# Altium schematic symbol library LFE5U-25F-BG256.Schlib: 1 symbol
Pins are listed as number, name and electrical type; pins without a type are passive.

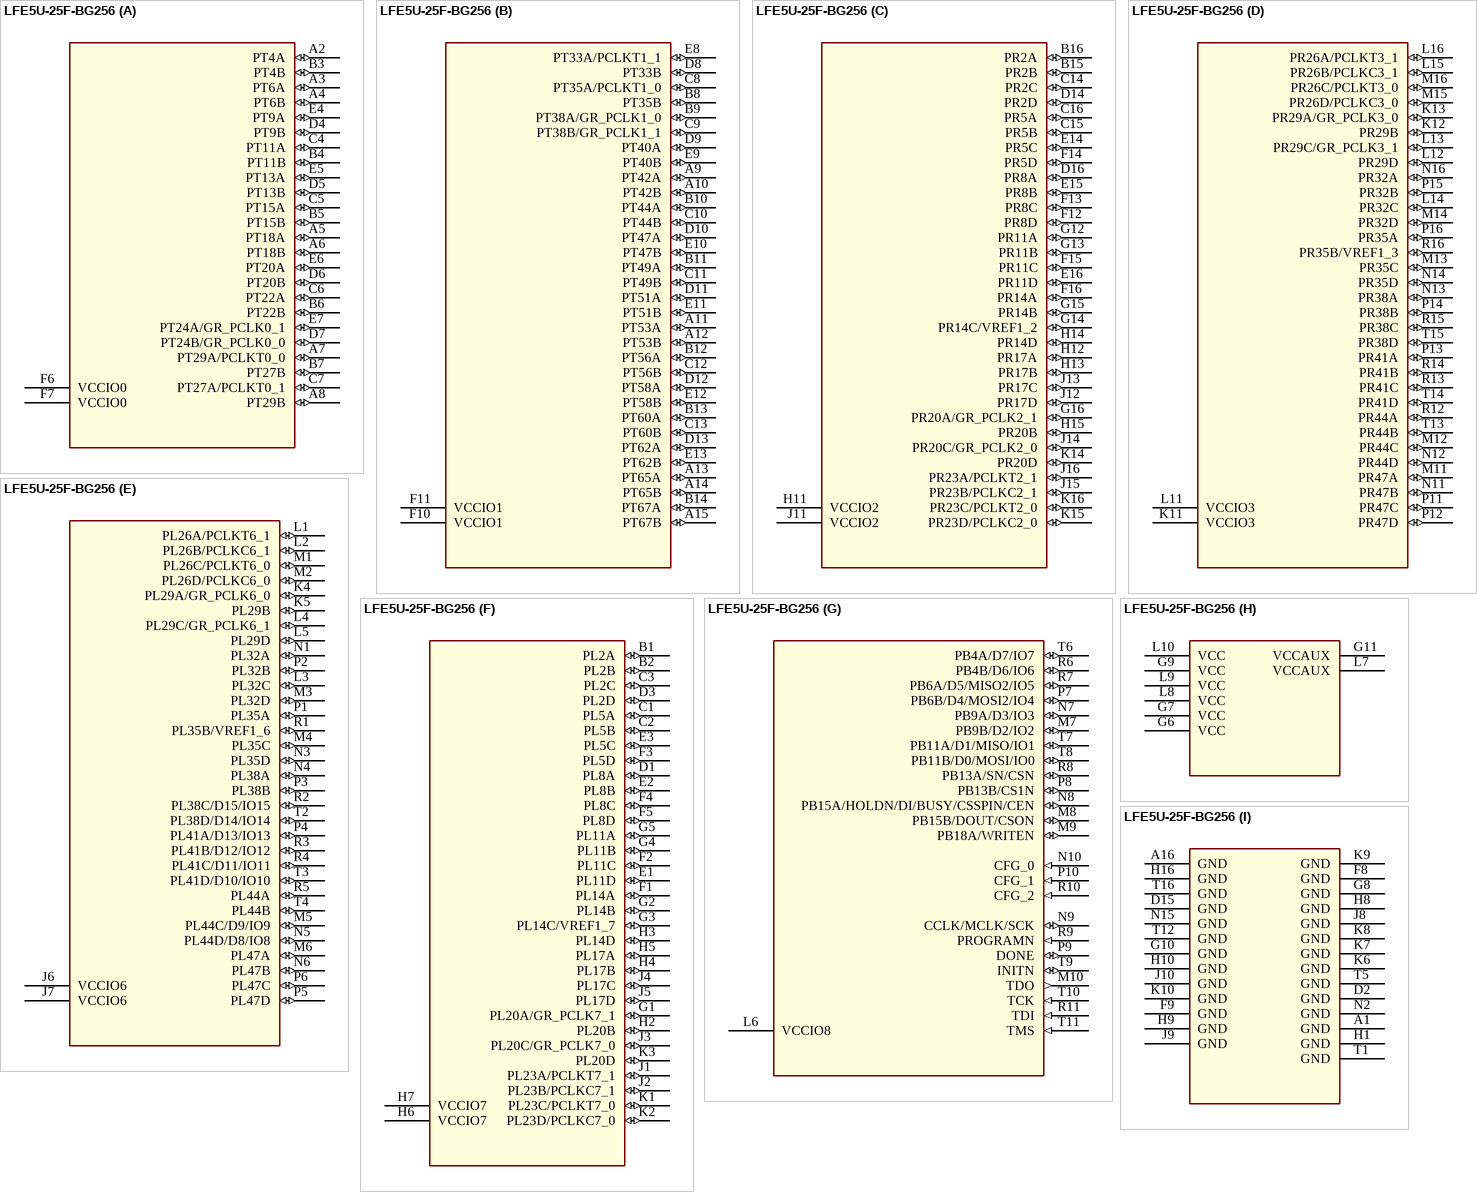
[diagram p0: symbol LFE5U-25F-BG256]

## LFE5U-25F-BG256
designator U?
part A pins: A2 PT4A (io), A3 PT6A (io), A4 PT6B (io), A5 PT18A (io), A6 PT18B (io), A7 PT29A/PCLKT0_0 (io), A8 PT29B (io), B3 PT4B (io), B4 PT11B (io), B5 PT15B (io), B6 PT22B (io), B7 PT27B (io), C4 PT11A (io), C5 PT15A (io), C6 PT22A (io), C7 PT27A/PCLKT0_1 (io), D4 PT9B (io), D5 PT13B (io), D6 PT20B (io), D7 PT24B/GR_PCLK0_0 (io), E4 PT9A (io), E5 PT13A (io), E6 PT20A (io), E7 PT24A/GR_PCLK0_1 (io), F6 VCCIO0 (power), F7 VCCIO0 (power)
part B pins: A9 PT42A (io), A10 PT42B (io), A11 PT53A (io), A12 PT53B (io), A13 PT65A (io), A14 PT65B (io), A15 PT67B (io), B8 PT35B (io), B9 PT38A/GR_PCLK1_0 (io), B10 PT44A (io), B11 PT49A (io), B12 PT56A (io), B13 PT60A (io), B14 PT67A (io), C8 PT35A/PCLKT1_0 (io), C9 PT38B/GR_PCLK1_1 (io), C10 PT44B (io), C11 PT49B (io), C12 PT56B (io), C13 PT60B (io), D8 PT33B (io), D9 PT40A (io), D10 PT47A (io), D11 PT51A (io), D12 PT58A (io), D13 PT62A (io), E8 PT33A/PCLKT1_1 (io), E9 PT40B (io), E10 PT47B (io), E11 PT51B (io), E12 PT58B (io), E13 PT62B (io), F10 VCCIO1 (power), F11 VCCIO1 (power)
part C pins: B15 PR2B (io), B16 PR2A (io), C14 PR2C (io), C15 PR5B (io), C16 PR5A (io), D14 PR2D (io), D16 PR8A (io), E14 PR5C (io), E15 PR8B (io), E16 PR11D (io), F12 PR8D (io), F13 PR8C (io), F14 PR5D (io), F15 PR11C (io), F16 PR14A (io), G12 PR11A (io), G13 PR11B (io), G14 PR14C/VREF1_2 (io), G15 PR14B (io), G16 PR20A/GR_PCLK2_1 (io), H11 VCCIO2 (power), H12 PR17A (io), H13 PR17B (io), H14 PR14D (io), H15 PR20B (io), J11 VCCIO2 (power), J12 PR17D (io), J13 PR17C (io), J14 PR20C/GR_PCLK2_0 (io), J15 PR23B/PCLKC2_1 (io), J16 PR23A/PCLKT2_1 (io), K14 PR20D (io), K15 PR23D/PCLKC2_0 (io), K16 PR23C/PCLKT2_0 (io)
part D pins: K11 VCCIO3 (power), K12 PR29B (io), K13 PR29A/GR_PCLK3_0 (io), L11 VCCIO3 (power), L12 PR29D (io), L13 PR29C/GR_PCLK3_1 (io), L14 PR32C (io), L15 PR26B/PCLKC3_1 (io), L16 PR26A/PCLKT3_1 (io), M11 PR47A (io), M12 PR44C (io), M13 PR35C (io), M14 PR32D (io), M15 PR26D/PCLKC3_0 (io), M16 PR26C/PCLKT3_0 (io), N11 PR47B (io), N12 PR44D (io), N13 PR38A (io), N14 PR35D (io), N16 PR32A (io), P11 PR47C (io), P12 PR47D (io), P13 PR41A (io), P14 PR38B (io), P15 PR32B (io), P16 PR35A (io), R12 PR44A (io), R13 PR41C (io), R14 PR41B (io), R15 PR38C (io), R16 PR35B/VREF1_3 (io), T13 PR44B (io), T14 PR41D (io), T15 PR38D (io)
part E pins: J6 VCCIO6 (power), J7 VCCIO6 (power), K4 PL29A/GR_PCLK6_0 (io), K5 PL29B (io), L1 PL26A/PCLKT6_1 (io), L2 PL26B/PCLKC6_1 (io), L3 PL32C (io), L4 PL29C/GR_PCLK6_1 (io), L5 PL29D (io), M1 PL26C/PCLKT6_0 (io), M2 PL26D/PCLKC6_0 (io), M3 PL32D (io), M4 PL35C (io), M5 PL44C/D9/IO9 (io), M6 PL47A (io), N1 PL32A (io), N3 PL35D (io), N4 PL38A (io), N5 PL44D/D8/IO8 (io), N6 PL47B (io), P1 PL35A (io), P2 PL32B (io), P3 PL38B (io), P4 PL41A/D13/IO13 (io), P5 PL47D (io), P6 PL47C (io), R1 PL35B/VREF1_6 (io), R2 PL38C/D15/IO15 (io), R3 PL41B/D12/IO12 (io), R4 PL41C/D11/IO11 (io), R5 PL44A (io), T2 PL38D/D14/IO14 (io), T3 PL41D/D10/IO10 (io), T4 PL44B (io)
part F pins: B1 PL2A (io), B2 PL2B (io), C1 PL5A (io), C2 PL5B (io), C3 PL2C (io), D1 PL8A (io), D3 PL2D (io), E1 PL11D (io), E2 PL8B (io), E3 PL5C (io), F1 PL14A (io), F2 PL11C (io), F3 PL5D (io), F4 PL8C (io), F5 PL8D (io), G1 PL20A/GR_PCLK7_1 (io), G2 PL14B (io), G3 PL14C/VREF1_7 (io), G4 PL11B (io), G5 PL11A (io), H2 PL20B (io), H3 PL14D (io), H4 PL17B (io), H5 PL17A (io), H6 VCCIO7 (power), H7 VCCIO7 (power), J1 PL23A/PCLKT7_1 (io), J2 PL23B/PCLKC7_1 (io), J3 PL20C/GR_PCLK7_0 (io), J4 PL17C (io), J5 PL17D (io), K1 PL23C/PCLKT7_0 (io), K2 PL23D/PCLKC7_0 (io), K3 PL20D (io)
part G pins: L6 VCCIO8 (power), M7 PB9B/D2/IO2 (io), M8 PB15B/DOUT/CSON (io), M9 PB18A/WRITEN (io), M10 TDO (out), N7 PB9A/D3/IO3 (io), N8 PB15A/HOLDN/DI/BUSY/CSSPIN/CEN (io), N9 CCLK/MCLK/SCK (io), N10 CFG_0 (in), P7 PB6B/D4/MOSI2/IO4 (io), P8 PB13B/CS1N (io), P9 DONE (io), P10 CFG_1 (in), R6 PB4B/D6/IO6 (io), R7 PB6A/D5/MISO2/IO5 (io), R8 PB13A/SN/CSN (io), R9 PROGRAMN (in), R10 CFG_2 (in), R11 TDI (in), T6 PB4A/D7/IO7 (io), T7 PB11A/D1/MISO/IO1 (io), T8 PB11B/D0/MOSI/IO0 (io), T9 INITN (io), T10 TCK (in), T11 TMS (in)
part H pins: G6 VCC (power), G7 VCC (power), G9 VCC (power), G11 VCCAUX (power), L7 VCCAUX (power), L8 VCC (power), L9 VCC (power), L10 VCC (power)
part I pins: A1 GND (power), A16 GND (power), D2 GND (power), D15 GND (power), F8 GND (power), F9 GND (power), G8 GND (power), G10 GND (power), H1 GND (power), H8 GND (power), H9 GND (power), H10 GND (power), H16 GND (power), J8 GND (power), J9 GND (power), J10 GND (power), K6 GND (power), K7 GND (power), K8 GND (power), K9 GND (power), K10 GND (power), N2 GND (power), N15 GND (power), T1 GND (power), T5 GND (power), T12 GND (power), T16 GND (power)